# Altium footprint library SENSOR_TEMPERATURA.PcbLib: 1 footprints
Each footprint in its own frame and in the unit in brackets; x right, y up, seen from the top. Pads: shape width x height; smd on the part's side, far side on the other; paste and mask are expansions set on the pad; w line width, h text height; cw(c..) or ccw(c..) is an arc to the next point about the centre after c.
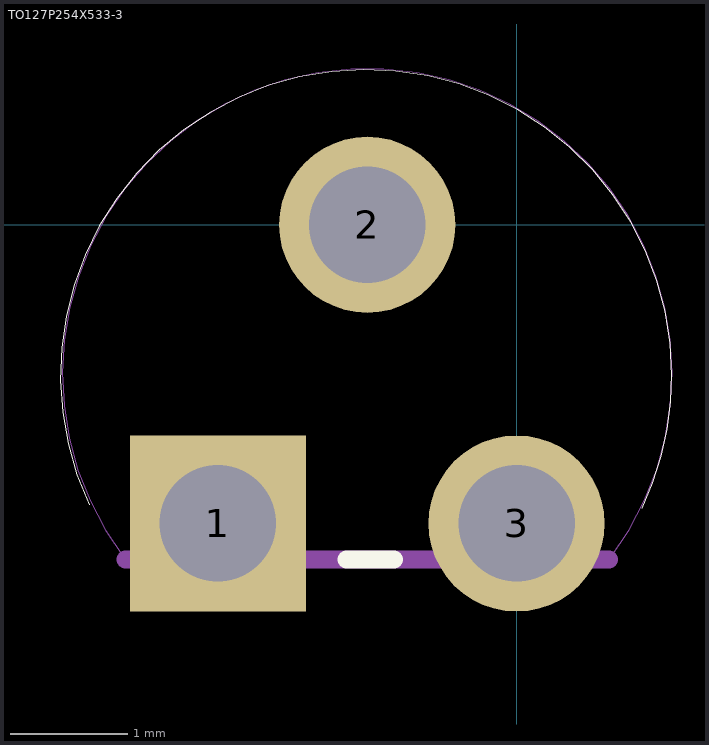
[diagram p0: the footprint, top view; thin cyan lines are the x and y axes]

## TO127P254X533-3 [mil]
pads (3):
  rect 59x59 / inner round 59 / far side rect 59x59 hole 39: 1(-100,-100)
  round 59 hole 39: 2(-50,0) 3(0,-100)
Top Overlay:
  lines w0: -143.16,-93.65 cw(c-50.38,-50.38) 52,-50.38 ; 42.02,-94.95 ccw(c-54.49,-49.95) 52,-49.95
  lines w6: -57,-112 -41,-112
Mechanical 13:
  lines w0: -131.54,-111.29 cw(c-50,-49.85) 31.54,-111.29
  lines w6: -131,-112 31,-112
3D body "step_temp.STEP": height 210, standoff -500, extent -94.8,-52.5 94.8,92.5